# EAGLE library part OPA4703EA/250 (library My_Library_RADAR)
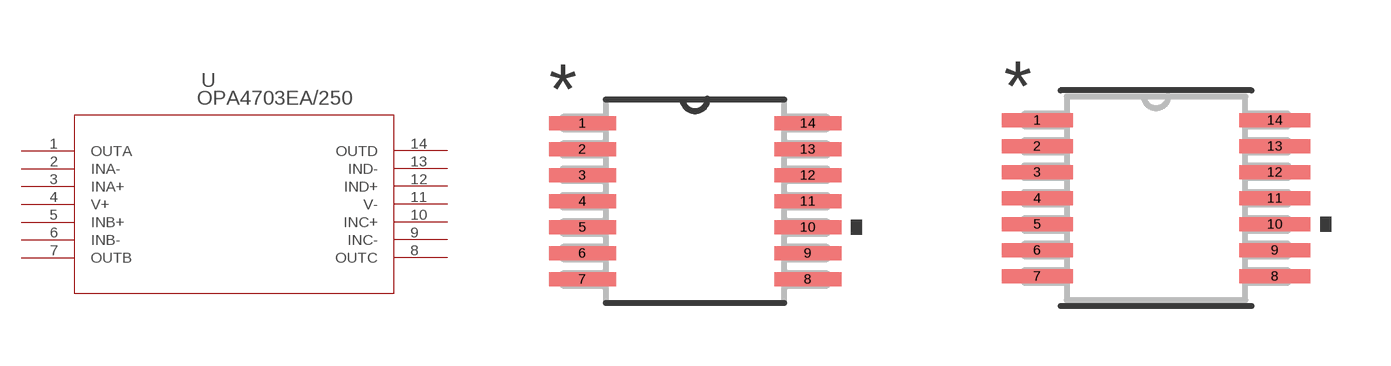
[diagram p25: symbol with the pads of PW14; footprints PW14, PW14-M]

Designator prefix U

## OPA4703EA/250 (COPYRIGHT: Copyright (C) 2025 Ultra Librarian. All rights reserved.; DATASHEET: https://www.ti.com/lit/gpn/opa4703; DESCRIPTION: Quad, 12-V, 1-MHz, low-offset operational amplifier 14-TSSOP -40 to 85; MANUFACTURER_NAME: Texas Instruments; MANUFACTURER_PART_NUMBER: OPA4703EA/250)  [PW14]
1  OUTA  out
2  INA-  in
3  INA+  in
4  V+  pwr
5  INB+  in
6  INB-  in
7  OUTB  out
8  OUTC  out
9  INC-  in
10  INC+  in
11  V-  pwr
12  IND+  in
13  IND-  in
14  OUTD  out

## OPA4703EA/250PW14-M (COPYRIGHT: Copyright (C) 2025 Ultra Librarian. All rights reserved.; DATASHEET: https://www.ti.com/lit/gpn/opa4703; DESCRIPTION: Quad, 12-V, 1-MHz, low-offset operational amplifier 14-TSSOP -40 to 85; MANUFACTURER_NAME: Texas Instruments; MANUFACTURER_PART_NUMBER: OPA4703EA/250)  [PW14-M]
Pads as for PW14

## OPA4703EA/250PW14-L (COPYRIGHT: Copyright (C) 2025 Ultra Librarian. All rights reserved.; DATASHEET: https://www.ti.com/lit/gpn/opa4703; DESCRIPTION: Quad, 12-V, 1-MHz, low-offset operational amplifier 14-TSSOP -40 to 85; MANUFACTURER_NAME: Texas Instruments; MANUFACTURER_PART_NUMBER: OPA4703EA/250)  [PW14-L]
Pads as for PW14

## Footprint PW14 (pad centres in mm)
smd 1.676 x 0.356: 1 -2.819,1.95; 2 -2.819,1.3; 3 -2.819,0.65; 4 -2.819,0; 5 -2.819,-0.65; 6 -2.819,-1.3; 7 -2.819,-1.95; 8 2.819,-1.95; 9 2.819,-1.3; 10 2.819,-0.65; 11 2.819,0; 12 2.819,0.65; 13 2.819,1.3; 14 2.819,1.95

## Footprint PW14-M (pad centres in mm)
smd 1.778 x 0.356: 1 -2.972,1.95; 2 -2.972,1.3; 3 -2.972,0.65; 4 -2.972,0; 5 -2.972,-0.65; 6 -2.972,-1.3; 7 -2.972,-1.95; 8 2.972,-1.95; 9 2.972,-1.3; 10 2.972,-0.65; 11 2.972,0; 12 2.972,0.65; 13 2.972,1.3; 14 2.972,1.95

## Footprint PW14-L (pad centres in mm)
smd 1.168 x 0.305: 1 -2.87,1.95; 2 -2.87,1.3; 3 -2.87,0.65; 4 -2.87,0; 5 -2.87,-0.65; 6 -2.87,-1.3; 7 -2.87,-1.95; 8 2.87,-1.95; 9 2.87,-1.3; 10 2.87,-0.65; 11 2.87,0; 12 2.87,0.65; 13 2.87,1.3; 14 2.87,1.95